# Altium schematic symbol library SCH - INTERFACE - CAN - TCAN1042HGVDRBRQ1.SCHLIB: 1 symbol
Pins are listed as number, name and electrical type; pins without a type are passive.

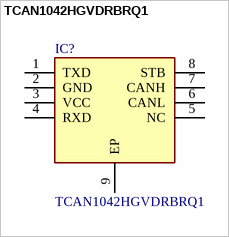
[diagram p0: symbol TCAN1042HGVDRBRQ1]

## TCAN1042HGVDRBRQ1
designator IC?
Integrated Circuit
pins: 1 TXD, 2 GND, 3 VCC, 4 RXD, 5 NC, 6 CANL, 7 CANH, 8 STB, 9 EP